# Altium footprint library Imported_Components.PcbLib: 32 footprints (part 1 of 2)
Each footprint in its own frame and in the unit in brackets; x right, y up, seen from the top. Pads: shape width x height; smd on the part's side, far side on the other; paste and mask are expansions set on the pad; w line width, h text height; cw(c..) or ccw(c..) is an arc to the next point about the centre after c.
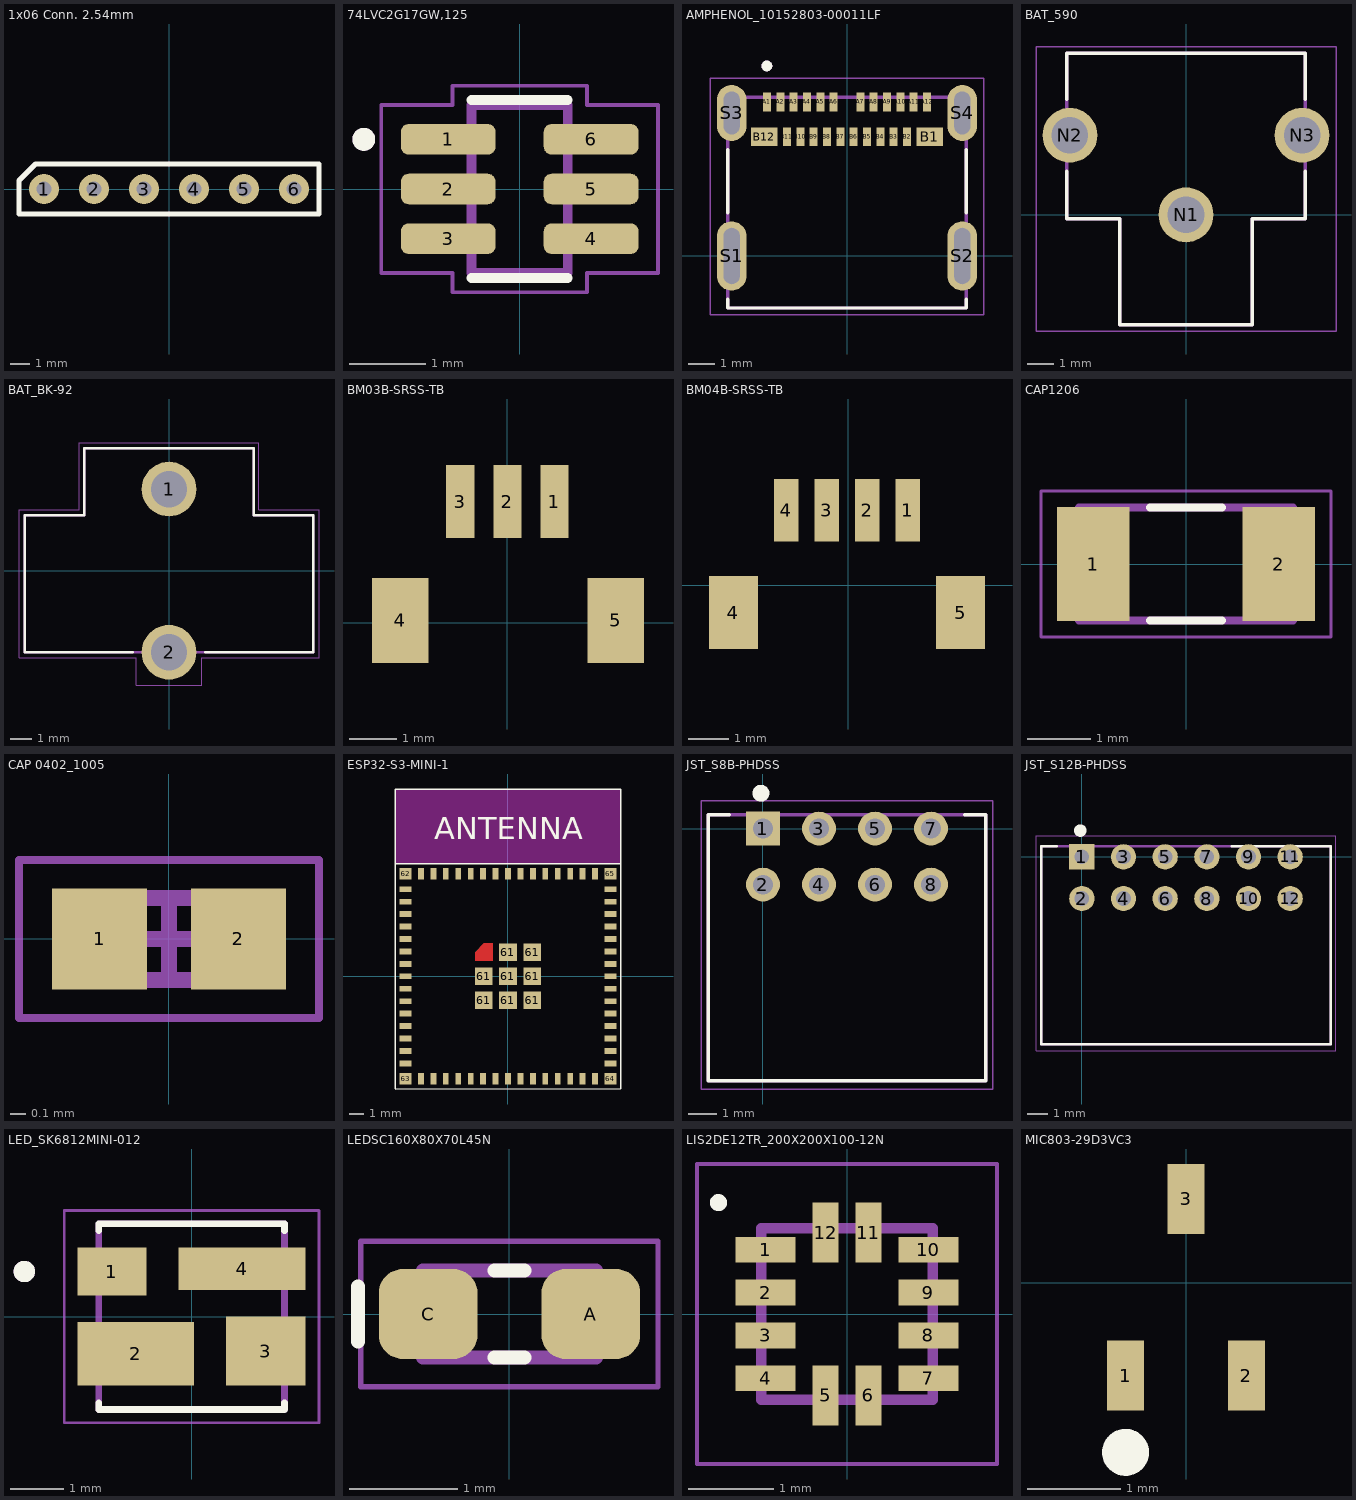
[diagram p0: the footprints below, top view; thin cyan lines are the x and y axes]

## 1x06 Conn. 2.54mm [mil]
pads (6):
  round 60 hole 30: 1(-250,0) 2(-150,0) 3(-50,0) 4(50,0) 5(150,0) 6(250,0)
Top Overlay:
  lines w10: -300,-50 -300,17 -267,50 300,50 300,-50 -300,-50

## 74LVC2G17GW,125 [mm] "SOP65 P210X110-6N"
pads (6):
  rrect50% 1.24x0.4 smd: 1(-0.935,0.65) 2(-0.935,0) 3(-0.935,-0.65) 4(0.935,-0.65) 5(0.935,0) 6(0.935,0.65)
Top Overlay:
  circle w0.15: c-2.04,0.65 r0.075
  lines w0.127: -0.63,-1.164 0.63,-1.164 ; -0.63,1.164 0.63,1.164
Mechanical 13:
  circle w0.15: c-2.04,0.65 r0.075
  lines w0.127: -0.63,-1.1 0.63,-1.1 0.63,1.1 -0.63,1.1 -0.63,-1.1
Mechanical 15:
  lines w0.05: -1.81,-1.1 -1.81,1.1 -0.88,1.1 -0.88,1.35 0.88,1.35 0.88,1.1 1.81,1.1 1.81,-1.1 0.88,-1.1 0.88,-1.35 -0.88,-1.35 -0.88,-1.1 -1.81,-1.1
3D body "74LVC2G17GW_125.step": height 1.1, standoff 0, extent -1.05,-1 1.05,1

## AMPHENOL_10152803-00011LF [mm]
height 3.26
pads (28):
  rect 0.3x0.7 smd: A1(-3,5.77) A2(-2.5,5.77) A3(-2,5.77) A4(-1.5,5.77) A5(-1,5.77) A6(-0.5,5.77) A7(0.5,5.77) A8(1,5.77) A9(1.5,5.77) A10(2,5.77) A11(2.5,5.77) A12(3,5.77) B2(2.25,4.47) B3(1.75,4.47) B4(1.25,4.47) B5(0.75,4.47) B6(0.25,4.47) B7(-0.25,4.47) B8(-0.75,4.47) B9(-1.25,4.47) B10(-1.75,4.47) B11(-2.25,4.47)
  rect 1x0.7 smd: B1(3.1,4.47) B12(-3.1,4.47)
  oval 1.1x2.6 hole 0.6 slot 2.1 at 90 deg: S1(-4.32,0) S2(4.32,0)
  oval 1.1x2.1 hole 0.6 slot 1.6 at 90 deg: S3(-4.32,5.36) S4(4.32,5.36)
Top Overlay:
  circle w0.2: c-3,7.12 r0.1
  lines w0.127: -4.47,-1.62 -4.47,-1.95 4.47,-1.95 4.47,-1.62 ; -4.47,1.62 -4.47,3.99 ; 4.47,1.62 4.47,3.99
Mechanical 13:
  circle w0.2: c-3,7.12 r0.1
  lines w0.127: -4.47,-1.95 4.47,-1.95 4.47,5.95 -4.47,5.95 -4.47,-1.95
Mechanical 15:
  lines w0.05: -5.12,-2.2 5.12,-2.2 5.12,6.66 -5.12,6.66 -5.12,-2.2
3D body "(USB-C Surface)10152803-00011LF.step": height 3.23, standoff -0.83, extent -4.498,-1.829 4.447,6.071

## BAT_590 [mm]
height 12.69
pads (3):
  round 2.1 hole 1.4: N1(0,0) N2(-4.445,3.05) N3(4.445,3.05)
Top Overlay:
  lines w0.127: -4.565,1.68 -4.565,-0.15 -2.535,-0.15 -2.535,-4.21 2.535,-4.21 2.535,-0.15 4.565,-0.15 4.565,1.68 ; -4.565,4.42 -4.565,6.19 4.565,6.19 4.565,4.42
Mechanical 13:
  lines w0.127: -4.565,-0.15 -4.565,6.19 4.565,6.19 4.565,-0.15 2.535,-0.15 2.535,-4.21 -2.535,-4.21 -2.535,-0.15 -4.565,-0.15
Mechanical 15:
  lines w0.05: -5.745,-4.46 -5.745,6.44 5.745,6.44 5.745,-4.46 -5.745,-4.46
3D body "590--3DModel-STEP-630548.STEP": height 12.72, standoff -3.89, extent -5.339,-4.113 5.274,6.3

## BAT_BK-92 [mm]
pads (2):
  round 2.55 hole 1.7: 1(0,3.81) 2(0,-3.81)
Top Overlay:
  lines w0.127: -1.7,-3.81 -6.73,-3.81 -6.73,2.59 -3.95,2.59 -3.95,5.71 3.95,5.71 3.95,2.59 6.73,2.59 6.73,-3.81 1.7,-3.81
Mechanical 13:
  lines w0.127: -6.73,-3.81 -6.73,2.59 -3.95,2.59 -3.95,5.71 3.95,5.71 3.95,2.59 6.73,2.59 6.73,-3.81 -6.73,-3.81
Mechanical 15:
  lines w0.05: -7,-4.06 -7,2.84 -4.2,2.84 -4.2,5.96 4.2,5.96 4.2,2.84 7,2.84 7,-4.06 1.525,-4.06 1.525,-5.335 -1.525,-5.335 -1.525,-4.06 -7,-4.06
3D body "BK-92--3DModel-STEP-56544.STEP": height 15.41, standoff -4, extent -6.73,-3.76 6.726,5.757

## BM03B-SRSS-TB [mm] "Connector Header Surface Mount 3 position 0.039\" (1.00mm)"
pads (5):
  rect 0.6x1.55 smd: 1(1,2.575) 2(0,2.575) 3(-1,2.575)
  rect 1.2x1.8 smd: 4(-2.275,0.05) 5(2.3,0.05)
3D body "BM03B-SRSS-TB.STEP": height 4.25, standoff 0, extent -2.5,-0.7 2.5,2.9

## BM04B-SRSS-TB [mm] "Connector Header Surface Mount 4 position 0.039\" (1.00mm)"
pads (6):
  rect 0.6x1.55 smd: 1(1.475,1.85) 2(0.475,1.85) 3(-0.525,1.85) 4(-1.525,1.85)
  rect 1.2x1.8 smd: 4(-2.825,-0.675) 5(2.775,-0.675)
3D body "BM04B-SRSS-TB.STEP": height 4.35, standoff 0, extent -3,-1.45 3,2.15

## CAP1206 [mm]
pads (2):
  rect 1.16x1.82 smd: 1(-1.475,0) 2(1.475,0)
Top Overlay:
  lines w0.127: -0.57,-0.9 0.57,-0.9 ; -0.57,0.9 0.57,0.9
Mechanical 13:
  lines w0.127: -1.7,-0.9 -1.7,0.9 1.7,0.9 1.7,-0.9 -1.7,-0.9
Mechanical 15:
  lines w0.05: -2.308,-1.158 -2.308,1.158 2.308,1.158 2.308,-1.158 -2.308,-1.158
3D body "CAP1206.step": height 0.88, standoff 0, extent -1.6,-0.8 1.6,0.8

## CAP 0402_1005 [mm] "Chip Capacitor, 2-Leads, Body 1.02x0.51mm, IPC Medium Density"
height 0.52
pads (2):
  rect 0.6x0.64 smd: 1(-0.44,0) 2(0.44,0)
Mechanical 13:
  lines w0.1: -0.515,-0.26 0.515,-0.26 0.515,0.26 -0.515,0.26 -0.515,-0.26
Mechanical 15:
  lines w0.05: -0.95,-0.5 0.95,-0.5 0.95,0.5 -0.95,0.5 -0.95,-0.5
  lines w0.1: -0.26,0 0.26,0 ; 0,-0.26 0,0.26
3D body "0402 cap.STEP": height 0.52, standoff 0, extent -0.5,-0.262 0.5,0.262

## ESP32-S3-MINI-1 [mm]
pads (73):
  rect 0.8x0.4 smd: 1(-7,5.95) 2(-7,5.1) 3(-7,4.25) 4(-7,3.4) 5(-7,2.55) 6(-7,1.7) 7(-7,0.85) 8(-7,0) 9(-7,-0.85) 10(-7,-1.7) 11(-7,-2.55) 12(-7,-3.4) 13(-7,-4.25) 14(-7,-5.1) 15(-7,-5.95) 31(7,-5.95) 32(7,-5.1) 33(7,-4.25) 34(7,-3.4) 35(7,-2.55) 36(7,-1.7) 37(7,-0.85) 38(7,0) 39(7,0.85) 40(7,1.7) 41(7,2.55) 42(7,3.4) 43(7,4.25) 44(7,5.1) 45(7,5.95)
  rect 0.4x0.8 smd: 16(-5.95,-7) 17(-5.1,-7) 18(-4.25,-7) 19(-3.4,-7) 20(-2.55,-7) 21(-1.7,-7) 22(-0.85,-7) 23(0,-7) 24(0.85,-7) 25(1.7,-7) 26(2.55,-7) 27(3.4,-7) 28(4.25,-7) 29(5.1,-7) 30(5.95,-7) 46(5.95,7) 47(5.1,7) 48(4.25,7) 49(3.4,7) 50(2.55,7) 51(1.7,7) 52(0.85,7) 53(0,7) 54(-0.85,7) 55(-1.7,7) 56(-2.55,7) 57(-3.4,7) 58(-4.25,7) 59(-5.1,7) 60(-5.95,7)
  rect 1.2x1.2 smd: 61(-1.65,-1.65) 61(-1.65,0) 61(0,-1.65) 61(0,1.65) 61(0,0) 61(1.65,-1.65) 61(1.65,0) 61(1.65,1.65)
  round 0.025 smd: 61(-1.65,1.65)
  rect 0.8x0.8 smd: 62(-7,7) 63(-7,-7) 64(7,-7) 65(7,7)
Top Layer:
  region: -2.25,1.65 -2.25,1.05 -1.05,1.05 -1.05,2.25 -1.65,2.25
Top Overlay:
  lines w0.1: -7.7,7.7 7.7,7.7 ; -7.7,7.7 -7.7,-7.7 7.7,-7.7 7.7,7.7 ; -7.7,7.7 -7.7,12.8 7.7,12.8 7.7,7.7
  text "ANTENNA" at -5.046,9.354 h1.52
Keep-Out Layer:
  rectangle: -7.7,7.7 7.7,12.8
  region: -7.7,12.8 7.7,12.8 7.7,7.7 -7.7,7.7
3D body "ESP32-S3-MINI-1-N8.step": height 2.55, standoff 0, extent -7.7,-7.725 7.7,12.775

## JST_S8B-PHDSS [mm] "Connector Header Through Hole, Right Angle 8 position 0.079\" (2.00mm)"
pads (8):
  rect 1.208x1.208 hole 0.7: 1(0,0)
  round 1.208 hole 0.7: 2(0,-2) 3(2,0) 4(2,-2) 5(4,0) 6(4,-2) 7(6,0) 8(6,-2)
Top Overlay:
  circle w0.3: c-0.074,1.262 r0.15
  lines w0.127: -1.2,0.5 -1.95,0.5 -1.95,-9 7.95,-9 7.95,0.5 7.2,0.5
Mechanical 13:
  lines w0.127: -1.95,-9 7.95,-9 7.95,0.5 -1.95,0.5 -1.95,-9
Mechanical 15:
  lines w0.05: -2.2,-9.3 -2.2,1 8.2,1 8.2,-9.3 -2.2,-9.3
3D body "S8B-PHDSS.step": height 5, standoff -3, extent -1.95,-9 7.95,0.5

## JST_S12B-PHDSS [mm] "Connector Header Through Hole, Right Angle 12 position 0.079\" (2.00mm)"
pads (12):
  rect 1.208x1.208 hole 0.7: 1(0,0)
  round 1.208 hole 0.7: 2(0,-2) 3(2,0) 4(2,-2) 5(4,0) 6(4,-2) 7(6,0) 8(6,-2) 9(8,0) 10(8,-2) 11(10,0) 12(10,-2)
Top Overlay:
  circle w0.3: c-0.074,1.262 r0.15
  lines w0.127: -1.2,0.5 -1.95,0.5 -1.95,-9 11.95,-9 11.95,0.5 7.2,0.5
Mechanical 13:
  lines w0.127: -1.95,-9 -1.95,0.5 11.95,0.5 11.95,-9 -1.95,-9
Mechanical 15:
  lines w0.05: -2.2,-9.3 12.2,-9.3 12.2,1 -2.2,1 -2.2,-9.3
3D body "S12B-PHDSS.STEP": height 5, standoff -3, extent -1.95,-9 11.95,0.5

## LED_SK6812MINI-012 [mm] "SMD RGB LEDs(Built-in IC) ROHS 3535"
height 1.1
pads (4):
  rect 1.3x0.9 smd: 1(-1.5,0.85)
  rect 2.2x1.2 smd: 2(-1.05,-0.7)
  rect 1.5x1.3 smd: 3(1.4,-0.65)
  rect 2.4x0.8 smd: 4(0.95,0.9)
Top Overlay:
  circle w0.2: c-3.15,0.85 r0.1
  lines w0.127: -1.75,-1.62 -1.75,-1.75 1.75,-1.75 1.75,-1.62 ; -1.75,1.62 -1.75,1.75 1.75,1.75 1.75,1.62
Mechanical 13:
  circle w0.2: c-3.15,0.85 r0.1
  lines w0.127: -1.75,-1.75 -1.75,1.75 1.75,1.75 1.75,-1.75 -1.75,-1.75
Mechanical 15:
  lines w0.05: -2.4,-2 2.4,-2 2.4,2 -2.4,2 -2.4,-2
3D body "step_temp.STEP": height 1.1, standoff 0, extent -1.85,-1.75 1.85,1.75

## LEDSC160X80X70L45N [mm]
pads (2):
  rrect53% 0.91x0.83 smd: A(0.75,0) C(-0.75,0)
Top Overlay:
  lines w0.127: -1.397,-0.254 -1.397,0.254 ; -0.14,-0.4 0.14,-0.4 ; -0.14,0.4 0.14,0.4
Mechanical 13:
  lines w0.127: -0.8,-0.4 0.8,-0.4 0.8,0.4 -0.8,0.4 -0.8,-0.4
Mechanical 15:
  lines w0.05: -1.37,-0.67 1.37,-0.67 1.37,0.67 -1.37,0.67 -1.37,-0.67
3D body "0603_LED.STEP": height 0.7, standoff 0, extent -0.8,-0.4 0.8,0.4

## LIS2DE12TR_200X200X100-12N [mm]
pads (12):
  rect 0.7x0.3 smd: 1(-0.95,0.75) 2(-0.95,0.25) 3(-0.95,-0.25) 4(-0.95,-0.75) 7(0.95,-0.75) 8(0.95,-0.25) 9(0.95,0.25) 10(0.95,0.75)
  rect 0.3x0.7 smd: 5(-0.25,-0.95) 6(0.25,-0.95) 11(0.25,0.95) 12(-0.25,0.95)
Top Overlay:
  circle w0.1: c-1.5,1.3 r0.05
Mechanical 13:
  lines w0.127: -1,-1 -1,1 1,1 1,-1 -1,-1
Mechanical 15:
  lines w0.05: -1.75,-1.75 -1.75,1.75 1.75,1.75 1.75,-1.75 -1.75,-1.75
3D body "LIS2DE12TR.STEP": height 1, standoff 0, extent -1,-1 1,1

## MIC803-29D3VC3 [mm] "Supervisor Open Drain or Open Collector 1 Channel SC-70-3 Voltage - Threshold 2.93V"
pads (3):
  rect 0.4x0.75 smd: 1(-0.65,-1) 2(0.65,-1) 3(0,0.9)
Top Overlay:
  circle w0.254: c-0.65,-1.825 r0.125
3D body "SC-70_C3_MCH.step": height 1.09, standoff 0, extent -1.13,-1.257 1.13,1.157